# EAGLE library part BU2507FV (library jason_eagle6)
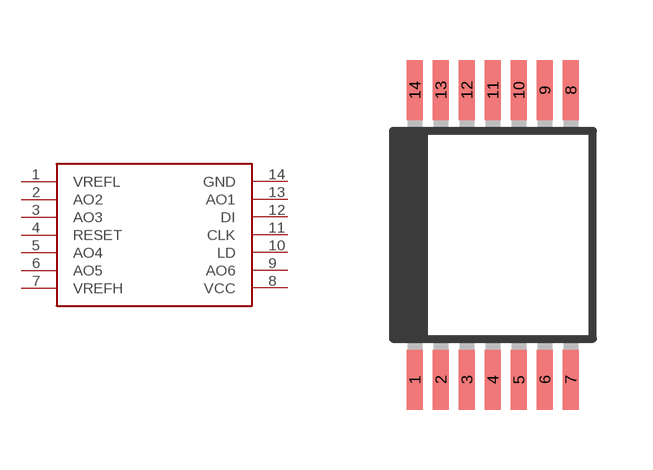
[diagram p60: symbol with the pads of SSOP14; footprint SSOP14]

Designator prefix -

## BU2507FVSSOP14  [SSOP14]
1  VREFL
2  AO2
3  AO3
4  RESET
5  AO4
6  AO5
7  VREFH
8  VCC  pwr
9  AO6
10  LD
11  CLK
12  DI
13  AO1
14  GND  pwr

## Footprint SSOP14 (pad centres in mm)
Shrink Small Outline Package package type SS
smd 0.4 x 1.5: 1 -1.95,-3.625; 2 -1.3,-3.625; 3 -0.65,-3.625; 4 0,-3.625; 5 0.65,-3.625; 6 1.3,-3.625; 7 1.95,-3.625; 8 1.95,3.625; 9 1.3,3.625; 10 0.65,3.625; 11 0,3.625; 12 -0.65,3.625; 13 -1.3,3.625; 14 -1.95,3.625